# Altium schematic symbol library Transistor.SchLib: 17 symbols
Pins are listed as number, name and electrical type; pins without a type are passive.

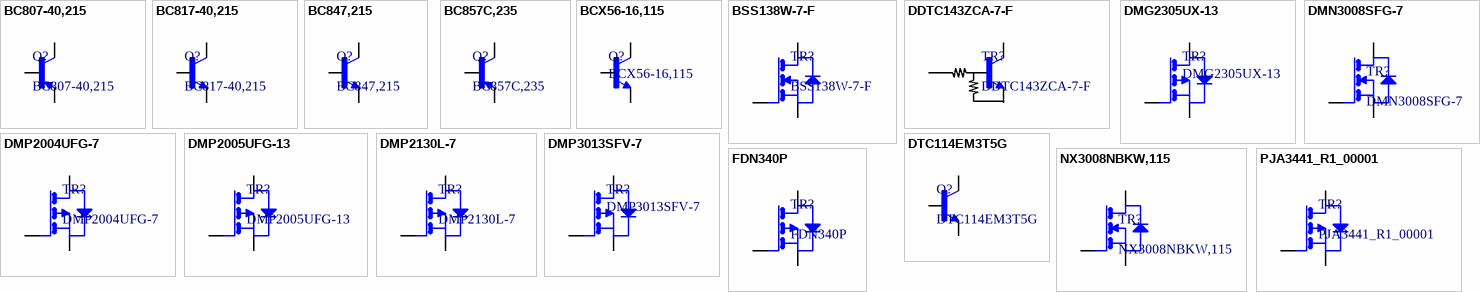
[diagram p0: symbols BC807-40,215 to PJA3441_R1_00001]

## BC807-40,215
designator Q?
TRANS PNP 45V 0.5A SOT23; Manufacturer: Nexperia; Purpose Of Usage: BASIC; Supplier 1: Digi-Key; Manufacturer Part Number: BC807-40,215; RoHS: Yes; Category: BJT; Supplier Part Number 1: 1727-2917-1-ND; Case/Package: SOT-23-3; Max Operating Temperature: 150°C; Min Operating Temperature: -55°C; Mount: SMD; Sub-Category: PNP; Stock ID: ??
footprint SOT23-3 (SOT23, 3-Leads, Body 2.92x2.51mm, Pitch 0.95mm, IPC Medium Density)
pins: 1 B, 2 E, 3 C

## BC817-40,215
designator Q?
TRANS NPN 45V 0.5A SOT23; Manufacturer: Nexperia; Purpose Of Usage: BASIC; Supplier 1: Digi-Key; Manufacturer Part Number: BC817-40,215; RoHS: Yes; Category: BJT; Supplier Part Number 1: 1727-2919-1-ND; Case/Package: SOT-23-3; Max Operating Temperature: 150°C; Min Operating Temperature: -55°C; Mount: SMD; Sub-Category: NPN; Stock ID: ??
footprint SOT23-3 (SOT23, 3-Leads, Body 2.92x2.51mm, Pitch 0.95mm, IPC Medium Density)
pins: 1 B, 2 E, 3 C

## BC847,215
designator Q?
TRANS NPN 45V 0.1A SOT23; Manufacturer: Nexperia; Purpose Of Usage: BASIC; Supplier 1: Digi-Key; Supplier Part Number 1: 1727-4855-1-ND; Manufacturer Part Number: BC847,215; RoHS: No; Category: BJT; Case/Package: SOT-23-3; Max Operating Temperature: 150°C; Min Operating Temperature: -55°C; Mount: SMD; Sub-Category: NPN; Stock ID: ??; Price 10K: 0.021; Local Supplier: OZDISAN
footprint SOT23-3 (SOT23, 3-Leads, Body 2.92x2.51mm, Pitch 0.95mm, IPC Medium Density)
pins: 1 B, 2 E, 3 C

## BC857C,235
designator Q?
TRANS PNP 45V 0.1A SOT23; Manufacturer: Nexperia; Purpose Of Usage: BASIC; Supplier 1: Digi-Key; Manufacturer Part Number: BC857C,235; RoHS: Yes; Supplier Part Number 1: 1727-1139-1-ND; Category: BJT; Case/Package: SOT-23-3; Max Operating Temperature: 150°C; Min Operating Temperature: -55°C; Mount: SMD; Sub-Category: PNP; Stock ID: ??
footprint SOT23-3 (SOT23, 3-Leads, Body 2.92x2.51mm, Pitch 0.95mm, IPC Medium Density)
pins: 1 B, 2 E, 3 C

## BCX56-16,115
designator Q?
TRANS, NPN, 80V, 1A, 3SOT89; Manufacturer: Nexperia; Purpose Of Usage: BASIC; Supplier 1: Digi-Key; Supplier Part Number 1: 1727-2930-1-ND; Manufacturer Part Number: BCX56-16,115; RoHS: No; Category: BJT; Case/Package: SOT-89; Max Operating Temperature: 150°C; Min Operating Temperature: -55°C; Mount: SMD; Sub-Category: NPN; Stock ID: ??
footprint SOT89
pins: 1 B, 2 C, 3 E

## BSS138W-7-F
designator TR?
BSS138W-7-F. - BSS FAMILY SOT323 T&R 3K ROHS COMPLIANT: YES; Manufacturer: Diodes; Max Power Dissipation: 200mW; Polarity: N-CHANNEL; Purpose Of Usage: BASIC; Supplier 1: Digi-Key; Manufacturer Part Number: BSS138W-7-F; RoHS: Yes; Mount: SMD; Case/Package: SOT-23-3; Min Operating Temperature: -55°C; Max Operating Temperature: 150°C; Power Dissipation: 200mW; Supplier Part Number 1: BSS138W-FDICT-ND; Category: BJT; Sub-Category: N-CHANNEL; Stock ID: ??
footprint SOT23-3 (SOT23, 3-Leads, Body 2.92x2.51mm, Pitch 0.95mm, IPC Medium Density)
pins: 1 G, 2 S, 3 D

## DDTC143ZCA-7-F
designator TR?
TRANS PREBIAS NPN 200MW SOT23-3; Manufacturer: Diodes; Purpose Of Usage: BASIC; Supplier 1: Digi-Key; Manufacturer Part Number: DDTC143ZCA-7-F; RoHS: Yes; Category: BJT; Case/Package: SOT-23-3; Min Operating Temperature: -55°C; Max Operating Temperature: 150°C; Max Power Dissipation: 200mW; Polarity: NPN; Supplier Part Number 1: DDTC143ZCA-FDITR-ND; Mount: SMD; Stock ID: ??; Sub-Category: NPN
footprint SOT23-3 (SOT23, 3-Leads, Body 2.92x2.51mm, Pitch 0.95mm, IPC Medium Density)
pins: 1 B, 2 E, 3 C

## DMG2305UX-13
designator TR?
Power MOSFET, P Channel, 20 V, 4.2 A, 0.04 ohm, SOT-23; Manufacturer: Diodes; Max Power Dissipation: 1.4W; Purpose Of Usage: BASIC; Supplier 1: Digi-Key; Manufacturer Part Number: DMG2305UX-13; RoHS: Yes; Mount: SMD; Case/Package: SOT-23-3; Min Operating Temperature: -55°C; Max Operating Temperature: 150°C; Category: MOSFETs; Supplier Part Number 1: DMG2305UX-13DICT-ND; Sub-Category: P-CHANNEL; Stock ID: ??
footprint SOT23-3 (SOT23, 3-Leads, Body 2.92x2.51mm, Pitch 0.95mm, IPC Medium Density)
pins: 1 G, 2 S, 3 D

## DMN3008SFG-7
designator TR?
Trans MOSFET N-CH 30V 17.6A Automotive 8-Pin PowerDI EP T/R; Manufacturer: Diodes; Max Power Dissipation: 900mW; Polarity: N-CHANNEL; Purpose Of Usage: BASIC; Supplier 1: Digi-Key; Manufacturer Part Number: DMN3008SFG-7; RoHS: Yes; Category: MOSFETs; Min Operating Temperature: -55°C; Max Operating Temperature: 150°C; Supplier Part Number 1: DMN3008SFG-7DITR-ND; Case/Package: DI3333-8; Mount: SMD; Stock ID: ??; Sub-Category: N-CHANNEL
footprint PowerDI3333-8
pins: 1 S, 2 G, 3 D

## DMP2004UFG-7
designator TR?
Mosfet Bvdss: 8V~24V POWERDI3333-8 T&r 2K; Manufacturer: Diodes; Polarity: P-CHANNEL; Purpose Of Usage: BASIC; Supplier 1: Digi-Key; Manufacturer Part Number: DMP2004UFG-7; RoHS: Yes; Category: MOSFETs; Supplier Part Number 1: 31-DMP2004UFG-7-ND; Case/Package: DI3333-8; Max Operating Temperature: 150°C; Min Operating Temperature: -55°C; Mount: SMD; Stock ID: ??; Sub-Category: P-CHANNEL
footprint PowerDI3333-8
pins: 1 S, 2 G, 3 D

## DMP2005UFG-13
designator TR?
20V P-channel Enhancement Mode Mosfet, 20V Vds, 10±V Vgs; Manufacturer: Diodes; Max Power Dissipation: 2.2W; Purpose Of Usage: BASIC; Manufacturer Part Number: DMP2005UFG-13; RoHS: Yes; Category: MOSFETs; Min Operating Temperature: -55°C; Max Operating Temperature: 150°C; Case/Package: DI3333-8; Mount: SMD; Polarity: P-CHANNEL; Stock ID: ??; Sub-Category: P-CHANNEL; Supplier 1: Digi-Key; Supplier Part Number 1: 31-DMP2005UFG-13CT-ND
footprint PowerDI3333-8
pins: 1 S, 2 G, 3 D

## DMP2130L-7
designator TR?
P-Channel 20 V 75 mOhm 7.3 nC Surface Mount Enhancement Mode Mosfet - SOT-23; Manufacturer: Diodes; Purpose Of Usage: BASIC; Manufacturer Part Number: DMP2130L-7; RoHS: Yes; Category: MOSFETs; Case/Package: SOT-23-3; Max Operating Temperature: 150°C; Min Operating Temperature: -55°C; Mount: SMD; Polarity: P-CHANNEL; Stock ID: ??; Sub-Category: P-CHANNEL; Supplier 1: Digi-Key; Supplier Part Number 1: DMP2130LDICT-ND
footprint SOT23-3 (SOT23, 3-Leads, Body 2.92x2.51mm, Pitch 0.95mm, IPC Medium Density)
pins: 1 G, 2 S, 3 D

## DMP3013SFV-7
designator TR?
MOSFET BVDSS: 25V 30V POWERDI333; Manufacturer: Diodes; Max Power Dissipation: 940mW; Purpose Of Usage: BASIC; Supplier 1: Digi-Key; Supplier Part Number 1: DMP3013SFV-7DICT-ND; Manufacturer Part Number: DMP3013SFV-7; RoHS: No; Mount: SMD; Min Operating Temperature: -55°C; Max Operating Temperature: 150°C; Category: MOSFETs; Case/Package: DI3333-8; Sub-Category: P-CHANNEL; Stock ID: ??
footprint PowerDI3333-8
pins: 1 S, 2 G, 3 D

## DTC114EM3T5G
designator Q?
TRANS NPN 50V 0.1A SOT-723; Manufacturer: ON Semiconductor; Max Power Dissipation: 260mW; Purpose Of Usage: BASIC; Supplier 1: Digi-Key; Manufacturer Part Number: DTC114EM3T5G; RoHS: Yes; Category: BJT; Case/Package: SOT-723-3; Min Operating Temperature: -55°C; Max Operating Temperature: 150°C; Polarity: NPN; Power Dissipation: 260mW; Supplier Part Number 1: DTC114EM3T5GOSCT-ND; Mount: SMD; Sub-Category: NPN; Stock ID: ??
footprint SOT-723 (SOT23, 3-Leads, Body 1.20x1.20mm, Pitch 0.40mm, IPC Medium Density)
pins: 1 B, 2 E, 3 C

## FDN340P
designator TR?
Trans Mosfet P-ch 20V 2A 3-PIN SOT-23 T/r; Manufacturer: ON Semiconductor / Fairchild; Max Power Dissipation: 500mW; Polarity: P-CHANNEL; Purpose Of Usage: BASIC; Supplier 1: Digi-Key; Manufacturer Part Number: FDN340P; RoHS: Yes; Category: MOSFETs; Mount: SMD; Case/Package: SOT-23-3; Min Operating Temperature: -55°C; Max Operating Temperature: 150°C; Power Dissipation: 500mW; Supplier Part Number 1: FDN340PCT-ND; Sub-Category: P-CHANNEL; Stock ID: ??
footprint SOT23-3 (SOT23, 3-Leads, Body 2.92x2.51mm, Pitch 0.95mm, IPC Medium Density)
pins: 1 G, 2 S, 3 D

## NX3008NBKW,115
designator TR?
MOSFET N-CH 30V SOT323; Manufacturer: Nexperia; Polarity: N-CHANNEL; Purpose Of Usage: BASIC; Supplier 1: Digi-Key; Manufacturer Part Number: NX3008NBKW,115; RoHS: Yes; Category: MOSFETs; Supplier Part Number 1: 1727-1280-2-ND; Case/Package: SOT-32-3; Max Operating Temperature: 150°C; Min Operating Temperature: -55°C; Mount: SMD; Stock ID: ??; Sub-Category: N-CHANNEL
footprint SOT323 (SOT23, 3-Leads, Body 2.92x2.51mm, Pitch 0.95mm, IPC Medium Density)
pins: 1 G, 2 S, 3 D

## PJA3441_R1_00001
designator TR?
Manufacturer: Pan Jit; Polarity: P-CHANNEL; Purpose Of Usage: BASIC; Manufacturer Part Number: PJA3441_R1_00001; RoHS: No; Case/Package: SOT-23-3; Category: MOSFETs; Local Supplier: OZDISAN; Max Operating Temperature: 150°C; Min Operating Temperature: -55°C; Mount: SMD; Price 10K: 0.07; Stock ID: ??; Sub-Category: P-CHANNEL; Supplier 1: Digi-Key; Supplier Part Number 1: 1727-1280-2-ND
footprint SOT23-3 (SOT23, 3-Leads, Body 2.92x2.51mm, Pitch 0.95mm, IPC Medium Density)
pins: 1 G, 2 S, 3 D